# Altium footprint library 4.0inch_SPI.PcbLib: 1 footprints
Each footprint in its own frame and in the unit in brackets; x right, y up, seen from the top. Pads: shape width x height; smd on the part's side, far side on the other; paste and mask are expansions set on the pad; w line width, h text height; cw(c..) or ccw(c..) is an arc to the next point about the centre after c.
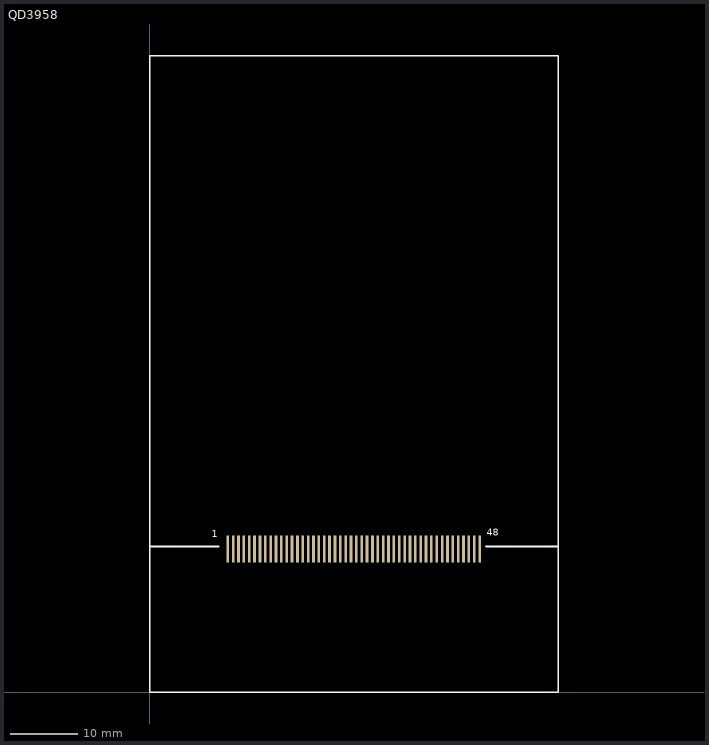
[diagram p0: the footprint, top view; thin cyan lines are the x and y axes]

## QD3958 [mm]
pads (48):
  rect 0.4x4 smd: 1(11.654,21.386) 2(12.454,21.386) 3(13.254,21.386) 4(14.054,21.386) 5(14.854,21.386) 6(15.654,21.386) 7(16.454,21.386) 8(17.254,21.386) 9(18.054,21.386) 10(18.854,21.386) 11(19.654,21.386) 12(20.454,21.386) 13(21.254,21.386) 14(22.054,21.386) 15(22.854,21.386) 16(23.654,21.386) 17(24.454,21.386) 18(25.254,21.386) 19(26.054,21.386) 20(26.854,21.386) 21(27.654,21.386) 22(28.454,21.386) 23(29.254,21.386) 24(30.054,21.386) 25(30.854,21.386) 26(31.654,21.386) 27(32.454,21.386) 28(33.254,21.386) 29(34.054,21.386) 30(34.854,21.386) 31(35.654,21.386) 32(36.454,21.386) 33(37.254,21.386) 34(38.054,21.386) 35(38.854,21.386) 36(39.654,21.386) 37(40.454,21.386) 38(41.254,21.386) 39(42.054,21.386) 40(42.854,21.386) 41(43.654,21.386) 42(44.454,21.386) 43(45.254,21.386) 44(46.054,21.386) 45(46.854,21.386) 46(47.654,21.386) 47(48.454,21.386) 48(49.254,21.386)
Top Overlay:
  lines w0.254: 0,21.762 10.289,21.762 ; 50.165,21.762 61,21.762 ; 0,0 61,0 61,95 0,95 0,0
  text "48" at 50.292,23.368 h1.02
  text "1" at 9.271,23.114 h1.02